# EAGLE library part 62000811821 (library Board_to_Board_Connectors_rev15d)
WR-PHD 2.00mm Socket Header, 8 Pins=>Code : Con_BTB_SHD_2.00_1_THT_62000811821 <http://katalog.we-online.de/media/thumbs2/eican/thb_Con_BTB_SHD_2.00_1_THT_6200xx11821_pf2.jpg> Details see: http://katalog.we-online.de/en/em/620_0xx_118_21 Created 2014-06-03, Karrer Zheng 2014 (C) Würth Elektronik
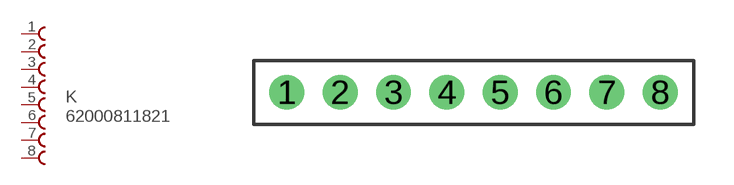
[diagram p252: symbol with the pads of 62000811821; footprint 62000811821]

Designator prefix K

## 62000811821  [62000811821]
1  1  pas
2  2  pas
3  3  pas
4  4  pas
5  5  pas
6  6  pas
7  7  pas
8  8  pas

## Footprint 62000811821 (pad centres in mm)
WR-PHD 2.00mm Socket Header, 8 Pins
drill 0.8: 1 -7,0; 2 -5,0; 3 -3,0; 4 -1,0; 5 1,0; 6 3,0; 7 5,0; 8 7,0